# Altium schematic symbol library nodes library.SchLib: 20 symbols
Pins are listed as number, name and electrical type; pins without a type are passive.

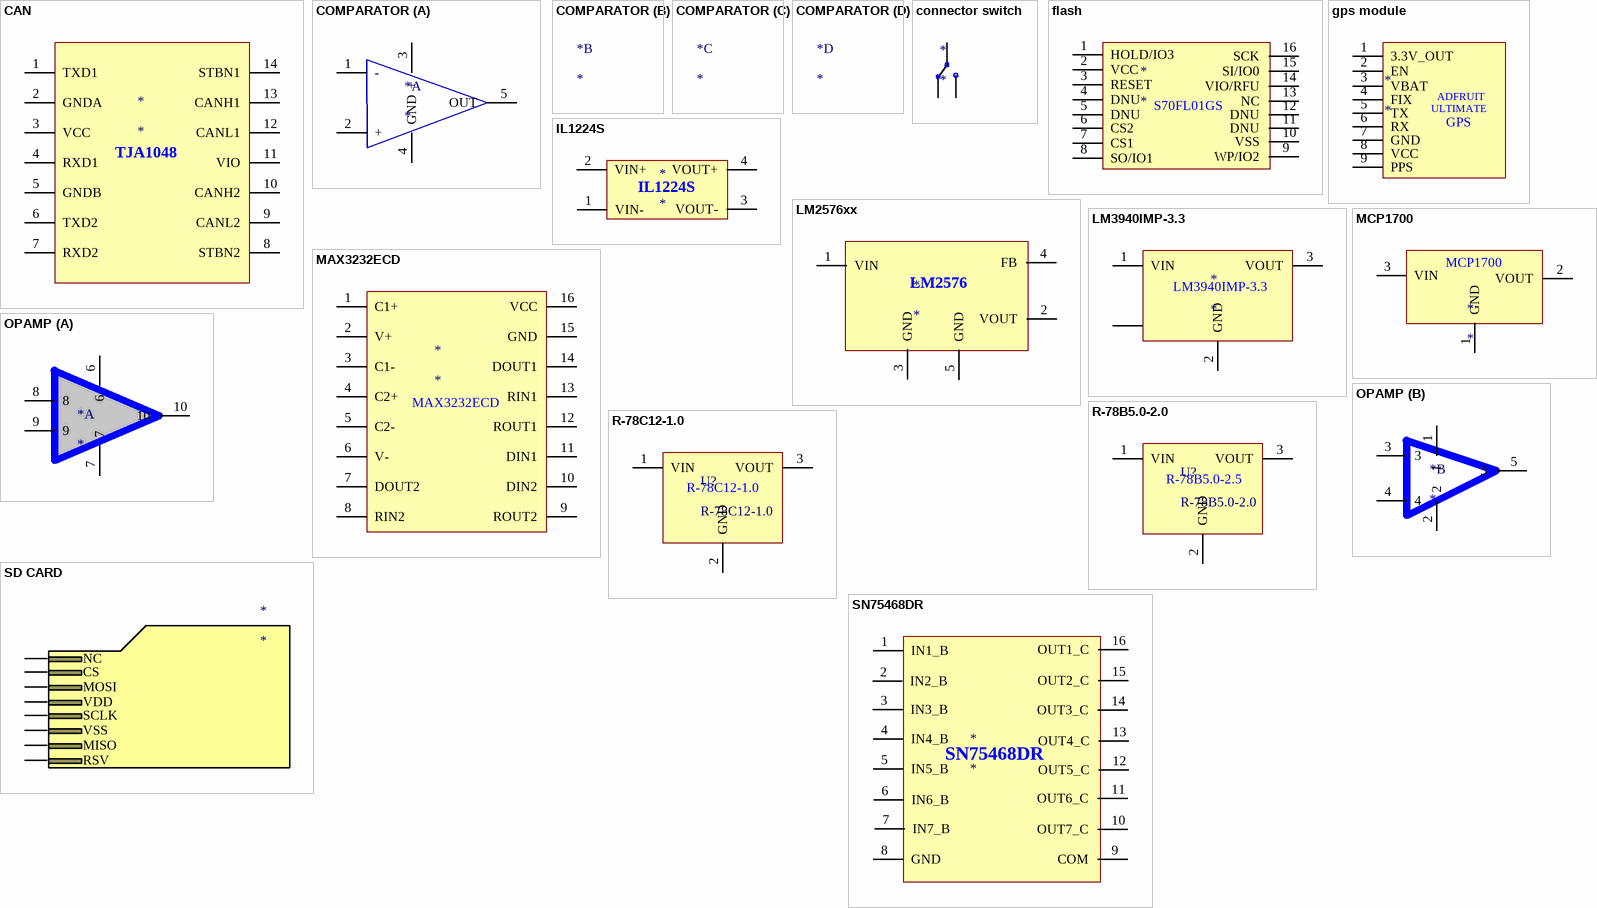
[diagram p0: symbols CAN to SN75468DR]

## CAN
designator *
pins: 1 TXD1, 2 GNDA, 3 VCC, 4 RXD1, 5 GNDB, 6 TXD2, 7 RXD2, 8 STBN2, 9 CANL2, 10 CANH2, 11 VIO, 12 CANL1, 13 CANH1, 14 STBN1
text: TJA1048

## COMPARATOR
designator *
part A pins: 1 -, 2 +, 3 +, 4 GND, 5 OUT

## connector switch
designator *
footprint PCBComponent_1
pins: 1, 2, 3

## flash
designator *
pins: 1 HOLD/IO3, 2 VCC, 3 RESET, 4 DNU, 5 DNU, 6 CS2, 7 CS1, 8 SO/IO1, 9 WP/IO2, 10 VSS, 11 DNU, 12 DNU, 13 NC, 14 VIO/RFU, 15 SI/IO0, 16 SCK
text: S70FL01GS

## gps module
designator *
pins: 1 3.3V_OUT, 2 EN, 3 VBAT, 4 FIX, 5 TX, 6 RX, 7 GND, 8 VCC, 9 PPS
text: ADFRUIT; ULTIMATE; GPS

## IL1224S
designator *
footprint IL1224S
pins: 1 VIN-, 2 VIN+, 3 VOUT-, 4 VOUT+

## LM2576xx
designator *
pins: 1 VIN, 2 VOUT, 3 GND, 4 FB, 5 GND
text: LM2576

## LM3940IMP-3.3
designator *
pins: 1 VIN, 2 GND, 3 VOUT, 4 TAB hidden to DGND

## MAX3232ECD
designator *
pins: 1 C1+, 2 V+, 3 C1-, 4 C2+, 5 C2-, 6 V-, 7 DOUT2, 8 RIN2, 9 ROUT2, 10 DIN2, 11 DIN1, 12 ROUT1, 13 RIN1, 14 DOUT1, 15 GND, 16 VCC

## MCP1700
designator *
pins: 1 GND, 2 VOUT, 3 VIN

## OPAMP
designator *
part A pins: 6, 7, 8, 9, 10
part B pins: 1, 2, 3, 4, 5

## R-78B5.0-2.0
designator U?
footprint R-78B-1.5
pins: 1 VIN, 2 GND, 3 VOUT
text: R-78B5.0-2.5

## R-78C12-1.0
designator U?
pins: 1 VIN, 2 GND, 3 VOUT

## SD CARD
designator *
pins: 1         NC, 2         CS, 3         MOSI, 4         VDD, 5         SCLK, 6         VSS, 7         MISO, 8         RSV

## SN75468DR
designator *
footprint ULQ2001 (darlington array)
pins: 1 IN1_B, 2 IN2_B, 3 IN3_B, 4 IN4_B, 5 IN5_B, 6 IN6_B, 7 IN7_B, 8 GND, 9 COM, 10 OUT7_C, 11 OUT6_C, 12 OUT5_C, 13 OUT4_C, 14 OUT3_C, 15 OUT2_C, 16 OUT1_C

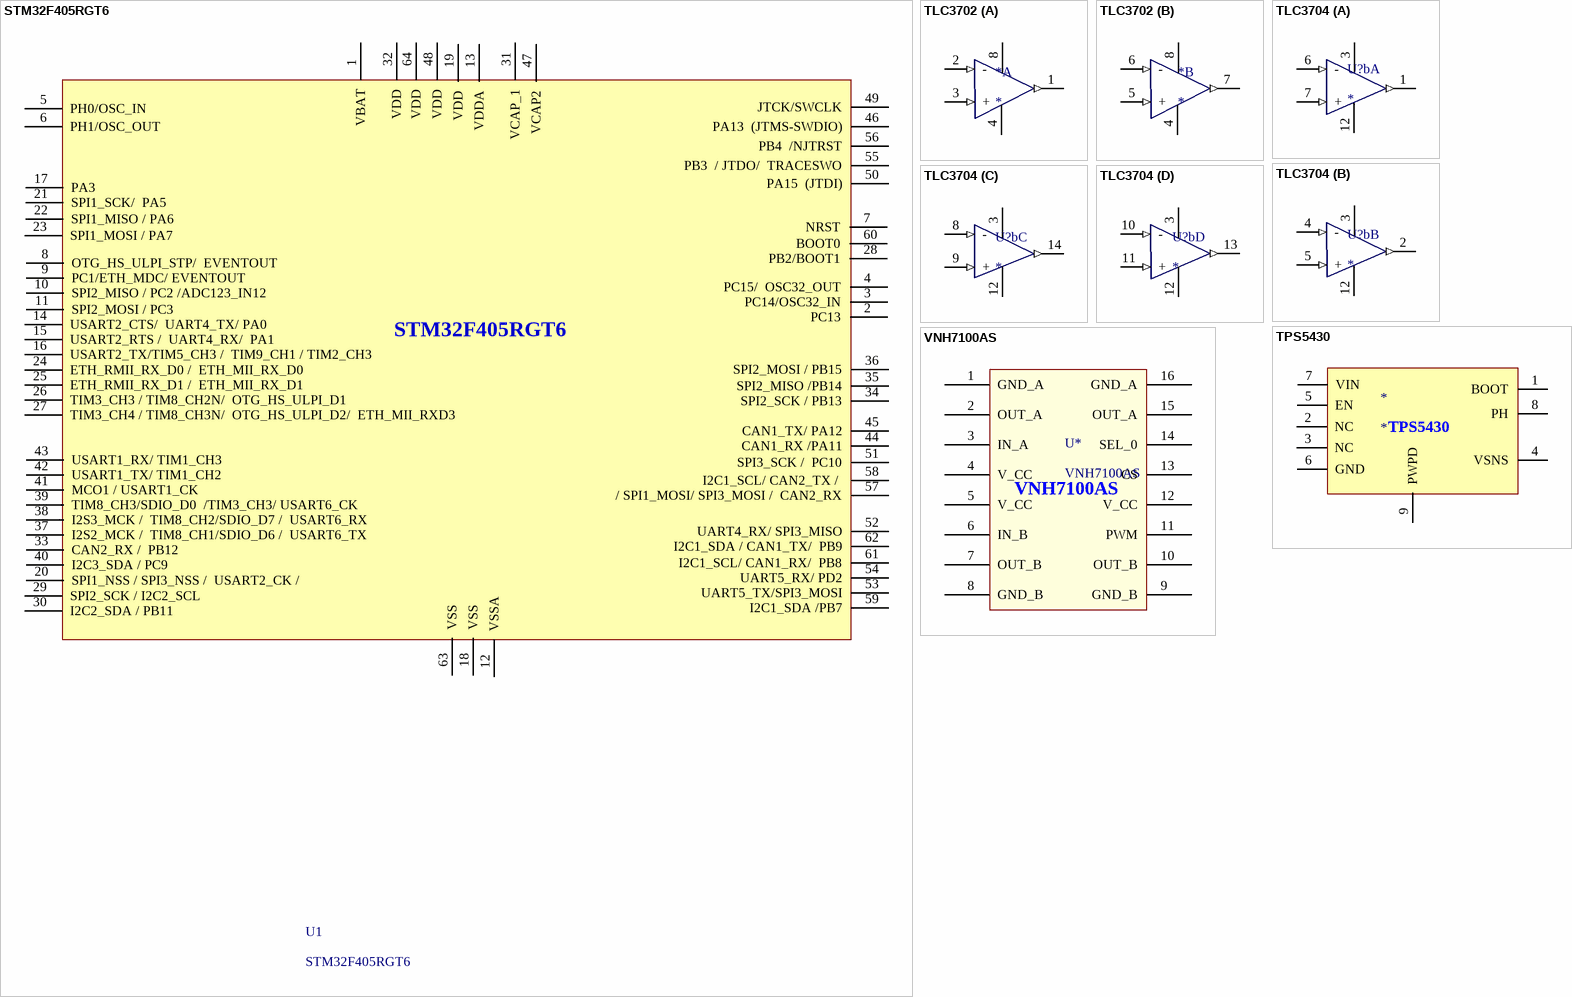
[diagram p1: symbols STM32F405RGT6 to VNH7100AS]

## STM32F405RGT6
designator U1
pins: 1 VBAT, 2 PC13, 3 PC14/OSC32_IN, 4 PC15/  OSC32_OUT, 5 PH0/OSC_IN, 6 PH1/OSC_OUT, 7 NRST, 8 OTG_HS_ULPI_STP/  EVENTOUT, 9 PC1/ETH_MDC/ EVENTOUT, 10 SPI2_MISO / PC2 /ADC123_IN12, 11 SPI2_MOSI / PC3, 12 VSSA, 13 VDDA, 14 USART2_CTS/  UART4_TX/ PA0, 15 USART2_RTS /  UART4_RX/  PA1, 16 USART2_TX/TIM5_CH3 /  TIM9_CH1 / TIM2_CH3, 17 PA3, 18 VSS, 19 VDD, 20 SPI1_NSS / SPI3_NSS /  USART2_CK / , 21 SPI1_SCK/  PA5, 22 SPI1_MISO / PA6, 23 SPI1_MOSI / PA7 , 24 ETH_RMII_RX_D0 /  ETH_MII_RX_D0, 25 ETH_RMII_RX_D1 /  ETH_MII_RX_D1, 26 TIM3_CH3 / TIM8_CH2N/  OTG_HS_ULPI_D1, 27 TIM3_CH4 / TIM8_CH3N/  OTG_HS_ULPI_D2/  ETH_MII_RXD3, 28 PB2/BOOT1, 29 SPI2_SCK / I2C2_SCL, 30 I2C2_SDA / PB11, 31 VCAP_1, 32 VDD, 33 CAN2_RX /  PB12, 34 SPI2_SCK / PB13, 35 SPI2_MISO /PB14, 36 SPI2_MOSI / PB15, 37 I2S2_MCK /  TIM8_CH1/SDIO_D6 /  USART6_TX, 38 I2S3_MCK /  TIM8_CH2/SDIO_D7 /  USART6_RX, 39 TIM8_CH3/SDIO_D0  /TIM3_CH3/ USART6_CK , 40 I2C3_SDA / PC9, 41 MCO1 / USART1_CK, 42 USART1_TX/ TIM1_CH2, 43 USART1_RX/ TIM1_CH3, 44 CAN1_RX /PA11, 45  CAN1_TX/ PA12, 46 PA13  (JTMS-SWDIO), 47 VCAP2, 48 VDD, 49 JTCK/SWCLK, 50 PA15  (JTDI), 51 SPI3_SCK /  PC10, 52 UART4_RX/ SPI3_MISO, 53 UART5_TX/SPI3_MOSI, 54 UART5_RX/ PD2, 55 PB3  / JTDO/  TRACESWO, 56 PB4  /NJTRST, 57 / SPI1_MOSI/ SPI3_MOSI /  CAN2_RX, 58 I2C1_SCL/ CAN2_TX / , 59 I2C1_SDA /PB7, 60 BOOT0, 61 I2C1_SCL/ CAN1_RX/  PB8, 62 I2C1_SDA / CAN1_TX/  PB9, 63 VSS, 64 VDD

## TLC3702
designator *
footprint COMPARATOR_TLC3702
part A pins: 1 (out), 2 - (in), 3 + (in), 4, 8 (power)
part B pins: 4, 5 + (in), 6 - (in), 7 (out), 8 (power)

## TLC3704
designator U?b
footprint COMPARATOR_TLC3704
part A pins: 1 (out), 3 (power), 6 - (in), 7 + (in), 12
part B pins: 2 (out), 3 (power), 4 - (in), 5 + (in), 12
part C pins: 3 (power), 8 - (in), 9 + (in), 12, 14 (out)
part D pins: 3 (power), 10 - (in), 11 + (in), 12, 13 (out)

## TPS5430
designator *
pins: 1 BOOT, 2 NC, 3 NC, 4 VSNS, 5 EN, 6 GND, 7 VIN, 8 PH, 9 PWPD

## VNH7100AS
designator U*
Automotive fully integrated H-bridge motor driver
footprint VNH7100AS (Motor driver)
pins: 1 GND_A, 2 OUT_A, 3 IN_A, 4 V_CC, 5 V_CC, 6 IN_B, 7 OUT_B, 8 GND_B, 9 GND_B, 10 OUT_B, 11 PWM, 12 V_CC, 13 CS, 14 SEL_0, 15 OUT_A, 16 GND_A